# EAGLE library part MC33091A (library driver-fet)
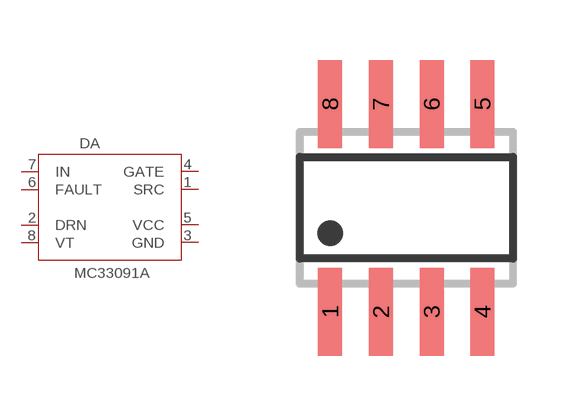
[diagram p0: symbol with the pads of SO08; footprint SO08]

Designator prefix DA

## MC33091A  [SO08]
1  SRC
2  DRN
3  GND  pwr
4  GATE  out
5  VCC  pwr
6  FAULT  oc
7  IN  in
8  VT

## Footprint SO08 (pad centres in mm)
SMALL OUTLINE INTEGRATED CIRCUIT body 3.9 mm/JEDEC MS-012AA
smd 0.6 x 2.2: 1 -1.905,-2.6; 2 -0.635,-2.6; 3 0.635,-2.6; 4 1.905,-2.6; 5 1.905,2.6; 6 0.635,2.6; 7 -0.635,2.6; 8 -1.905,2.6